# EAGLE library part ESP8266 (library ESP8266)
ESP-WROOM-02 - CEREVO Breakout <http://cerevo.shop-pro.jp/?pid=91592223>
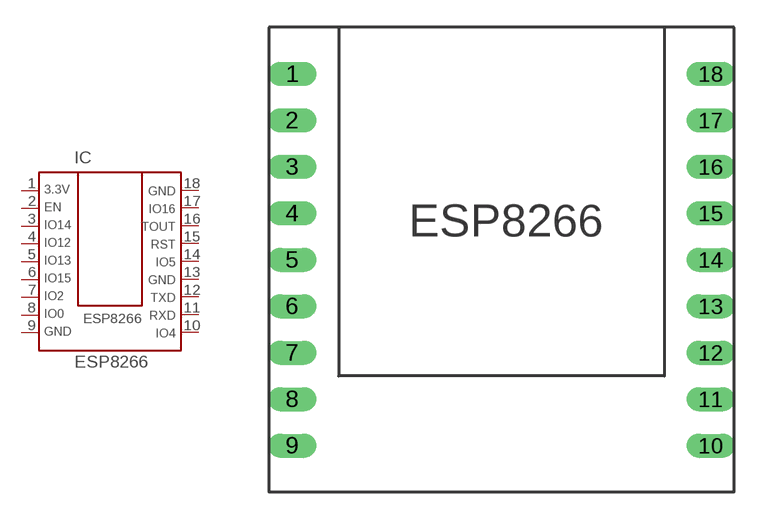
[diagram p0: symbol with the pads of CEREVO-PKG; footprint CEREVO-PKG]

Designator prefix IC

## ESP8266  [CEREVO-PKG]
1  1  pas
2  2  pas
3  3  pas
4  4  pas
5  5  pas
6  6  pas
7  7  pas
8  8  pas
9  9  pas
10  10  pas
11  11  pas
12  12  pas
13  13  pas
14  14  pas
15  15  pas
16  16  pas
17  17  pas
18  18  pas

## Footprint CEREVO-PKG (pad centres in mm)
ESP-WROOM-02 - CEREVO Breakout <http://cerevo.shop-pro.jp/?pid=91592223>
drill 0.813 long: 1 -11.43,10.16; 2 -11.43,7.62; 3 -11.43,5.08; 4 -11.43,2.54; 5 -11.43,0; 6 -11.43,-2.54; 7 -11.43,-5.08; 8 -11.43,-7.62; 9 -11.43,-10.16; 10 11.43,-10.16; 11 11.43,-7.62; 12 11.43,-5.08; 13 11.43,-2.54; 14 11.43,0; 15 11.43,2.54; 16 11.43,5.08; 17 11.43,7.62; 18 11.43,10.16